# EAGLE library part ANALOG (library AtoG)
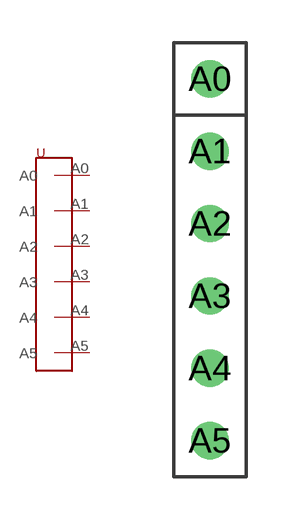
[diagram p0: symbol with the pads of ANALOG; footprint ANALOG]

Designator prefix -

## ANALOG  [ANALOG]
A0  A0
A1  A1
A2  A2
A3  A3
A4  A4
A5  A5

## Footprint ANALOG (pad centres in mm)
drill 0.8: A0 0,6.35; A1 0,3.81; A2 0,1.27; A3 0,-1.27; A4 0,-3.81; A5 0,-6.35